# Altium schematic symbol library res0402.SchLib: 1 symbol
Pins are listed as number, name and electrical type; pins without a type are passive.

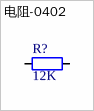
[diagram p0: symbol 电阻-0402]

## 电阻-0402
designator R?, comment 12K
Resistor; Value: 22R
footprint RES_0402
pins: 1, 2